# EAGLE library part ADC__4S__1 (library Marvin)
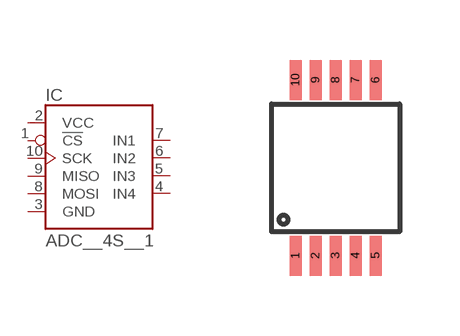
[diagram p1: symbol with the pads of MSOP10-2; footprint MSOP10-2]

Designator prefix IC

## ADC__4S__1  [MSOP10-2]
1  !CS
2  VCC  pwr
3  GND  pwr
4  IN4  pas
5  IN3  pas
6  IN2  pas
7  IN1  pas
8  MOSI
9  MISO
10  SCK

## Footprint MSOP10-2 (pad centres in mm)
smd 0.3 x 1: 1 -1,-2.2; 2 -0.5,-2.2; 3 0,-2.2; 4 0.5,-2.2; 5 1,-2.2; 6 1,2.2; 7 0.5,2.2; 8 0,2.2; 9 -0.5,2.2; 10 -1,2.2